# Altium footprint library VQFN_20_EP.PcbLib: 1 footprints
Each footprint in its own frame and in the unit in brackets; x right, y up, seen from the top. Pads: shape width x height; smd on the part's side, far side on the other; paste and mask are expansions set on the pad; w line width, h text height; cw(c..) or ccw(c..) is an arc to the next point about the centre after c.
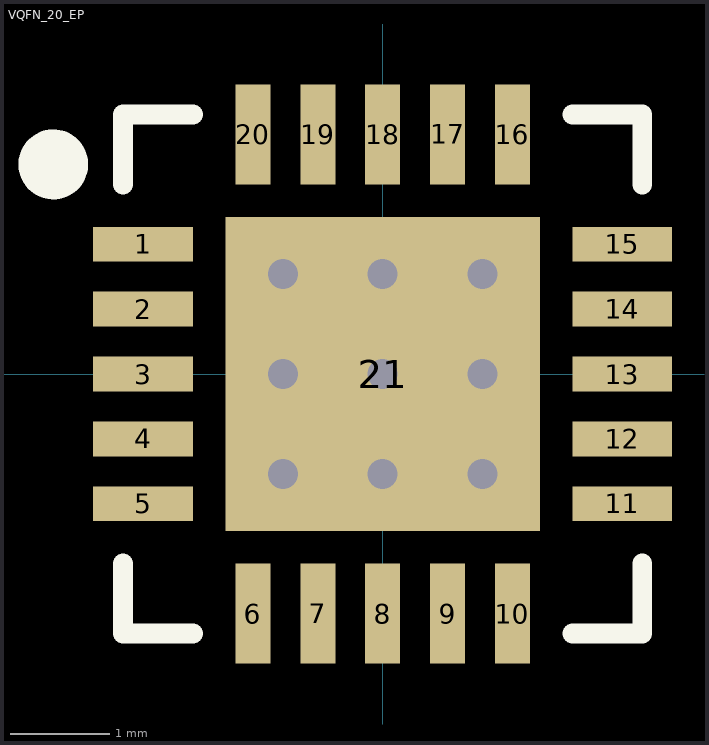
[diagram p0: the footprint, top view; thin cyan lines are the x and y axes]

## VQFN_20_EP [mm]
pads (21):
  rect 1x0.35 smd mask+0.07: 1(-2.4,1.3) 2(-2.4,0.65) 3(-2.4,0) 4(-2.4,-0.65) 5(-2.4,-1.3) 11(2.4,-1.3) 12(2.4,-0.65) 13(2.4,0) 14(2.4,0.65) 15(2.4,1.3)
  rect 0.35x1 smd mask+0.07: 6(-1.3,-2.4) 7(-0.65,-2.4) 8(0,-2.4) 9(0.65,-2.4) 10(1.3,-2.4) 16(1.3,2.4) 17(0.65,2.4) 18(0,2.4) 19(-0.65,2.4) 20(-1.3,2.4)
  rect 3.15x3.15 smd mask+0.07: 21(0,0)
via 1,-1 diameter 0.6 hole 0.3
via -1,-1 diameter 0.6 hole 0.3
via -1,1 diameter 0.6 hole 0.3
via 1,1 diameter 0.6 hole 0.3
via 0,1 diameter 0.6 hole 0.3
via 0,-1 diameter 0.6 hole 0.3
via -1,0 diameter 0.6 hole 0.3
via 1,0 diameter 0.6 hole 0.3
via 0,0 diameter 0.6 hole 0.3
Top Overlay:
  circle w0.35: c-3.3,2.1 r0.175
  lines w0.2: -2.6,-1.9 -2.6,-2.6 -1.9,-2.6 ; -2.6,1.9 -2.6,2.6 -1.9,2.6 ; 1.9,-2.6 2.6,-2.6 2.6,-1.9 ; 1.9,2.6 2.6,2.6 2.6,1.9
3D body: height 0.9, standoff 0, extent -2.5,-2.5 2.5,2.5